# EAGLE library part BCMI-SWITCHES_CL-SB-22A-02T (library MKRMotorCarrierV3.0)
Slide Switch DPDT Surface Mount
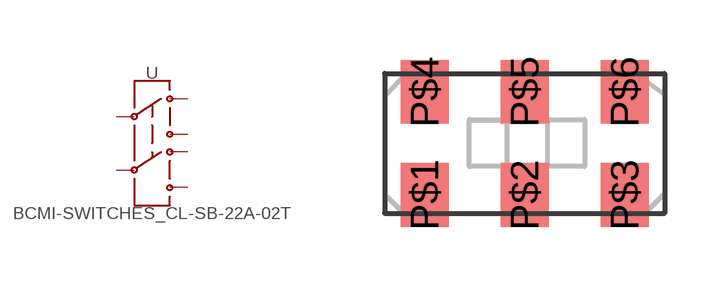
[diagram p1: symbol with the pads of BCMI-SWITCHES_CL-SB-22A; footprint BCMI-SWITCHES_CL-SB-22A]

Designator prefix -

## BCMI-SWITCHES_CL-SB-22A-02T (DATASHEET: https://www.nidec-copal-electronics.com/e/catalog/switch/cl-sb.pdf; DISTRIBUTOR-LINK: https://www.digikey.se/products/en?keywords=563-1339-1-ND; DISTRIBUTOR-PN: 563-1339-1-ND; MANUFACTURER: Copal Electronics; MANUFACTURER-PN: CL-SB-22A-02T)  [BCMI-SWITCHES_CL-SB-22A]
P$1  1
P$2  2
P$3  3
P$4  4
P$5  5
P$6  6

## Footprint BCMI-SWITCHES_CL-SB-22A (pad centres in mm)
smd 1.2 x 1.6: P$1 -2.5,-1.29; P$2 0,-1.29; P$3 2.5,-1.29; P$4 -2.5,1.29; P$5 0,1.29; P$6 2.5,1.29